# Altium schematic symbol library Passive-Discrete.SchLib: 63 symbols
Pins are listed as number, name and electrical type; pins without a type are passive.

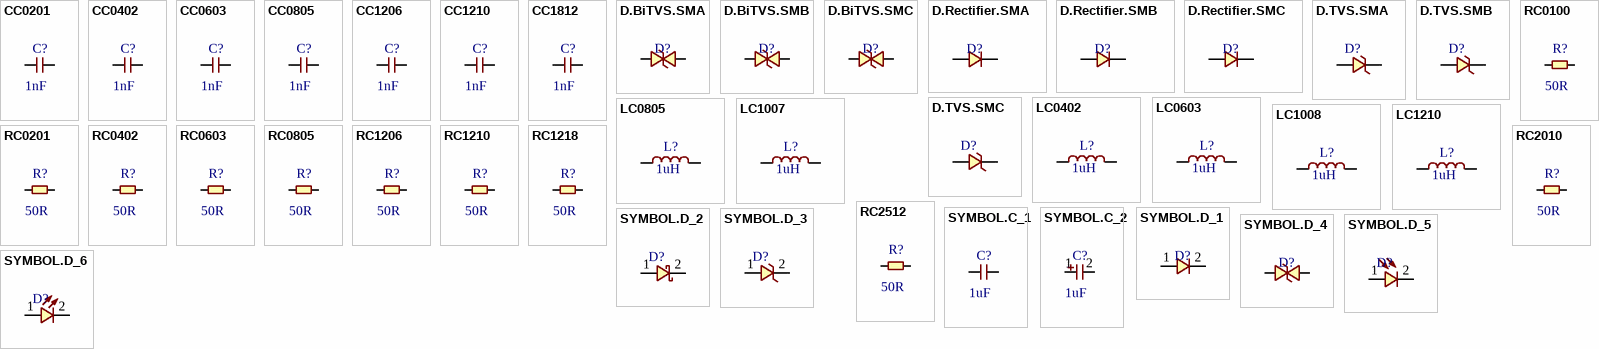
[diagram p0: symbols CC0201 to SYMBOL.D_6]

## CC0201
designator C?, comment 1nF
Capacitor Chip, EIA0201; Publisher: Julei; Manufacturer: *; PartNumber: *; Category: Capacitor; Notes: *; RatedVoltage: *; Series: *; Tolerance: *; Supplier: *; Price1: *; Price2: *; Value: 1nF
footprint CAPC.EIA0201 (Chip Capacitor, 2-Leads, Body 0.60x0.30mm, IPC Medium Density)
pins: 1, 2

## CC0402
designator C?, comment 1nF
Capacitor Chip, EIA0402; Publisher: Julei; Manufacturer: *; PartNumber: *; Category: Capacitor; Notes: *; RatedVoltage: *; Series: *; Tolerance: *; Supplier: *; Price1: *; Price2: *; Value: 1nF
footprint CAPC.EIA0402 (Chip Capacitor, 2-Leads, Body 1.00x0.50mm, IPC Medium Density)
pins: 1, 2

## CC0603
designator C?, comment 1nF
Capacitor Chip, EIA0603; Publisher: Julei; Manufacturer: *; PartNumber: *; Category: Capacitor; Notes: *; RatedVoltage: *; Series: *; Tolerance: *; Supplier: *; Price1: *; Price2: *; Value: 1nF
footprint CAPC.EIA0603 (Chip Capacitor, 2-Leads, Body 1.60x0.80mm, IPC Medium Density)
pins: 1, 2

## CC0805
designator C?, comment 1nF
Capacitor Chip, EIA0805; Publisher: Julei; Manufacturer: *; PartNumber: *; Category: Capacitor; Notes: *; RatedVoltage: *; Series: *; Tolerance: *; Supplier: *; Price1: *; Price2: *; Value: 1nF
footprint CAPC.EIA0805 (Chip Capacitor, 2-Leads, Body 2.00x1.25mm, IPC Medium Density)
pins: 1, 2

## CC1206
designator C?, comment 1nF
Capacitor Chip, EIA1206; Publisher: Julei; Manufacturer: *; PartNumber: *; Category: Capacitor; Notes: *; RatedVoltage: *; Series: *; Tolerance: *; Supplier: *; Price1: *; Price2: *; Value: 1nF
footprint CAPC.EIA1206 (Chip Capacitor, 2-Leads, Body 3.20x1.60mm, IPC Medium Density)
pins: 1, 2

## CC1210
designator C?, comment 1nF
Capacitor Chip, EIA1210; Publisher: Julei; Manufacturer: *; PartNumber: *; Category: Capacitor; Notes: *; RatedVoltage: *; Series: *; Tolerance: *; Supplier: *; Price1: *; Price2: *; Value: 1nF
footprint CAPC.EIA1210 (Chip Capacitor, 2-Leads, Body 3.20x2.50mm, IPC Medium Density)
pins: 1, 2

## CC1812
designator C?, comment 1nF
Capacitor Chip, EIA1812; Publisher: Julei; Manufacturer: *; PartNumber: *; Category: Capacitor; Notes: *; RatedVoltage: *; Series: *; Tolerance: *; Supplier: *; Price1: *; Price2: *; Value: 1nF
footprint CAPC.EIA1812 (Chip Capacitor, 2-Leads, Body 4.50x3.20mm, IPC Medium Density)
pins: 1, 2

## D.BiTVS.SMA
designator D?  (value not drawn)
Bidirectional TVS Diode, SMA Package; Publisher: Julei; Manufacturer: *; Notes: *; Category: Diode; PartNumber: *; Supplier: *; Price1: *; Price2: *
footprint DIODE.SMA (Molded Diode, 2-Leads, Body 5.20x2.60mm, IPC Medium Density)
pins: 1 A, 2 K

## D.BiTVS.SMB
designator D?  (value not drawn)
Bidirectional TVS Diode, SMB Package; Publisher: Julei; Manufacturer: *; Notes: *; Category: Diode; PartNumber: *; Supplier: *; Price2: *; Price1: *
footprint DIODE.SMB (Molded Diode, 2-Leads, Body 5.40x3.62mm, IPC Medium Density)
pins: 1 A, 2 K

## D.BiTVS.SMC
designator D?  (value not drawn)
Bidirectional TVS Diode, SMC Package; Publisher: Julei; Manufacturer: *; Notes: *; Category: Diode; PartNumber: *; Supplier: *; Price1: *; Price2: *
footprint DIODE.SMC (Molded Diode, 2-Leads, Body 7.95x5.90mm, IPC Medium Density)
pins: 1 A, 2 K

## D.Rectifier.SMA
designator D?  (value not drawn)
Rectifier Diode, SMA Package; Publisher: Julei; Manufacturer: *; Category: Diode; Notes: *; PartNumber: *; Supplier: *; Price1: *; Price2: *
footprint DIODE.SMA (Molded Diode, 2-Leads, Body 5.20x2.60mm, IPC Medium Density)
pins: 1 A, 2 K

## D.Rectifier.SMB
designator D?  (value not drawn)
Rectifier Diode, SMB Package; Publisher: Julei; Manufacturer: *; Category: Diode; Notes: *; PartNumber: *; Supplier: *; Price1: *; Price2: *
footprint DIODE.SMB (Molded Diode, 2-Leads, Body 5.40x3.62mm, IPC Medium Density)
pins: 1 A, 2 K

## D.Rectifier.SMC
designator D?  (value not drawn)
Rectifier Diode, SMC Package; Publisher: Julei; Manufacturer: *; Category: Diode; Notes: *; PartNumber: *; Supplier: *; Price1: *; Price2: *
footprint DIODE.SMC (Molded Diode, 2-Leads, Body 7.95x5.90mm, IPC Medium Density)
pins: 1 A, 2 K

## D.TVS.SMA
designator D?  (value not drawn)
TVS Diode, SMA Package; Publisher: Julei; Manufacturer: *; PartNumber: *; Category: Diode; Notes: *; Supplier: *; Price1: *; Price2: *
footprint DIODE.SMA (Molded Diode, 2-Leads, Body 5.20x2.60mm, IPC Medium Density)
pins: 1 A, 2 K

## D.TVS.SMB
designator D?  (value not drawn)
TVS Diode, SMB Package; Publisher: Julei; Manufacturer: *; PartNumber: *; Category: Diode; Notes: *; Supplier: *; Price1: *; Price2: *
footprint DIODE.SMB (Molded Diode, 2-Leads, Body 5.40x3.62mm, IPC Medium Density)
pins: 1 A, 2 K

## D.TVS.SMC
designator D?  (value not drawn)
TVS Diode, SMC Package; Publisher: Julei; Manufacturer: *; PartNumber: *; Category: Diode; Notes: *; Supplier: *; Price1: *; Price2: *
footprint DIODE.SMC (Molded Diode, 2-Leads, Body 7.95x5.90mm, IPC Medium Density)
pins: 1 A, 2 K

## LC0402
designator L?, comment 1uH
Inductor Chip, EIA0402; Publisher: Julei; Manufacturer: *; Tolerance: *; PartNumber: *; RatedCurrent: *; Notes: *; SRF: *; DCR: *; Supplier: *; Price1: *; Price2: *; Category: Inductor; Value: 1uH
footprint INDC.EIA0402 (Chip Inductor, 2-Leads, Body 1.00x0.50mm, IPC Medium Density)
pins: 1, 2

## LC0603
designator L?, comment 1uH
Inductor Chip, EIA0603; Publisher: Julei; Manufacturer: *; Tolerance: *; PartNumber: *; RatedCurrent: *; Notes: *; SRF: *; DCR: *; Category: Inductor; Supplier: *; Price1: *; Price2: *; Value: 1uH
footprint INDC.EIA0603 (Chip Inductor, 2-Leads, Body 1.60x0.80mm, IPC Medium Density)
pins: 1, 2

## LC0805
designator L?, comment 1uH
Inductor Chip, EIA0805; Publisher: Julei; Manufacturer: *; Tolerance: *; PartNumber: *; RatedCurrent: *; Notes: *; SRF: *; DCR: *; Category: Inductor; Price1: *; Price2: *; Value: 1uH
footprint INDC.EIA0805 (Chip Inductor, 2-Leads, Body 2.00x1.25mm, IPC Medium Density)
pins: 1, 2

## LC1007
designator L?, comment 1uH
Inductor Chip, EIA1007; Publisher: Julei; Manufacturer: *; Tolerance: *; PartNumber: *; RatedCurrent: *; Notes: *; SRF: *; DCR: *; Category: Inductor; Supplier: *; Price1: *; Price2: *; Value: 1uH
footprint INDC.EIA1007 (Chip Inductor, 2-Leads, Body 2.50x1.80mm, IPC Medium Density)
pins: 1, 2

## LC1008
designator L?, comment 1uH
Inductor Chip, EIA1008; Publisher: Julei; Manufacturer: *; Tolerance: *; PartNumber: *; RatedCurrent: *; Notes: *; SRF: *; DCR: *; Category: *; Supplier: *; Price1: *; Price2: *; Value: 1uH
footprint INDC.EIA1008 (Chip Inductor, 2-Leads, Body 2.50x2.00mm, IPC Medium Density)
pins: 1, 2

## LC1210
designator L?, comment 1uH
Inductor Chip, EIA1210; Publisher: Julei; Manufacturer: *; Tolerance: *; PartNumber: *; RatedCurrent: *; Notes: *; SRF: *; DCR: *; Category: Inductor; Supplier: *; Price1: *; Price2: *; Value: 1uH
footprint INDC.EIA1210 (Chip Inductor, 2-Leads, Body 3.20x2.50mm, IPC Medium Density)
pins: 1, 2

## RC0100
designator R?, comment 50R
Resistor Chip, EIA0100; RatedPower: 1/32W; Publisher: Julei; Manufacturer: *; PartNumber: *; Category: Resistor; Notes: *; Series: *; Tolerance: *; RateVoltage: *; RateCurrent: *; Supplier: *; Price1: *; Price2: *; Value: 50R
footprint RESC.EIA0100 (Chip Resistor, 2-Leads, Body 0.40x0.20mm, IPC Medium Density)
pins: 1, 2

## RC0201
designator R?, comment 50R
Resistor Chip, EIA0201; RatedPower: 1/20W; Publisher: Julei; Manufacturer: *; PartNumber: *; Category: Resistor; Notes: *; Series: *; Tolerance: *; RateVoltage: *; RateCurrent: *; Supplier: *; Price1: *; Price2: *; Value: 50R
footprint RESC.EIA0201 (Chip Resistor, 2-Leads, Body 0.60x0.30mm, IPC Medium Density)
pins: 1, 2

## RC0402
designator R?, comment 50R
Resistor Chip, EIA0402; RatedPower: 1/16W; Publisher: Julei; Manufacturer: *; PartNumber: *; Category: Resistor; Notes: *; Series: *; Tolerance: *; RateVoltage: *; RateCurrent: *; Supplier: *; Price1: *; Price2: *; Value: 50R
footprint RESC.EIA0402 (Chip Resistor, 2-Leads, Body 1.00x0.50mm, IPC Medium Density)
pins: 1, 2

## RC0603
designator R?, comment 50R
Resistor Chip, EIA0603; RatedPower: 1/10W; Publisher: Julei; Manufacturer: *; PartNumber: *; Category: Resistor; Notes: *; Series: *; Tolerance: *; RateVoltage: *; RateCurrent: *; Supplier: *; Price1: *; Price2: *; Value: 50R
footprint RESC.EIA0603 (Chip Resistor, 2-Leads, Body 1.60x0.80mm, IPC Medium Density)
pins: 1, 2

## RC0805
designator R?, comment 50R
Resistor Chip, EIA0805; RatedPower: 1/8W; Publisher: Julei; Manufacturer: *; PartNumber: *; Category: Resistor; Notes: *; Series: *; Tolerance: *; RateVoltage: *; RateCurrent: *; Supplier: *; Price1: *; Price2: *; Value: 50R
footprint RESC.EIA0805 (Chip Resistor, 2-Leads, Body 2.00x1.25mm, IPC Medium Density)
pins: 1, 2

## RC1206
designator R?, comment 50R  (graphical)
Resistor Chip, EIA1206; RatedPower: 1/4W; Publisher: Julei; Manufacturer: *; PartNumber: *; Category: Resistor; Notes: *; Series: *; Tolerance: *; RateVoltage: *; RateCurrent: *; Price1: *; Price2: *; Supplier: *; Value: 50R
footprint RESC.EIA1206 (Chip Resistor, 2-Leads, Body 3.10x1.60mm, IPC Medium Density)
pins: 1, 2

## RC1210
designator R?, comment 50R
Resistor Chip, EIA1210; RatedPower: 1/2W; Publisher: Julei; Manufacturer: *; PartNumber: *; Category: Resistor; Notes: *; Series: *; Tolerance: *; RateVoltage: *; RateCurrent: *; Supplier: *; Price2: *; Price1: *; Value: 50R
footprint RESC.EIA1210 (Chip Resistor, 2-Leads, Body 3.10x2.60mm, IPC Medium Density)
pins: 1, 2

## RC1218
designator R?, comment 50R
Resistor Chip, EIA1218; RatedPower: 1W; Publisher: Julei; Manufacturer: *; PartNumber: *; Category: Resistor; Notes: *; Series: *; Tolerance: *; RateVoltage: *; RateCurrent: *; Supplier: *; Price1: *; Price2: *; Value: 50R
footprint RESC.EIA1218 (Chip Resistor, 2-Leads, Body 3.10x4.60mm, IPC Medium Density)
pins: 1, 2

## RC2010
designator R?, comment 50R
Resistor Chip, EIA2010; RatedPower: 3/4W; Publisher: Julei; Manufacturer: *; PartNumber: *; Category: Resistor; Notes: *; Series: *; Tolerance: *; RateVoltage: *; RateCurrent: *; Supplier: *; Price1: *; Price2: *; Value: 50R
footprint RESC.EIA2010 (Chip Resistor, 2-Leads, Body 5.00x2.50mm, IPC Medium Density)
pins: 1, 2

## RC2512
designator R?, comment 50R
Resistor Chip, EIA2512; RatedPower: 1W; Publisher: Julei; Manufacturer: *; PartNumber: *; Category: Resistor; Notes: *; Series: *; Tolerance: *; RateVoltage: *; RateCurrent: *; Price1: *; Price2: *; Supplier: *; Value: 50R
footprint RESC.EIA2512 (Chip Resistor, 2-Leads, Body 6.35x3.10mm, IPC Medium Density)
pins: 1, 2

## SYMBOL.C_1
designator C?, comment 1uF
Non-Polarized Capacitor; Publisher: Julei; Manufacturer: *; RatedVoltage: *; Tolerance: *; PartNumber: *; Notes: *; Category: Capacitor; Series: *; Supplier: *; Price1: *; Price2: *; Value: 1uF
pins: 1, 2

## SYMBOL.C_2
designator C?, comment 1uF  (no BOM)
Polarized Capacitor; Publisher: Julei; RatedVoltage: *; Tolerance: *; Manufacturer: *; PartNumber: *; Notes: *; Category: Capacitor; Series: *; Supplier: *; Price1: *; Price2: *; Value: 1uF
pins: 1, 2

## SYMBOL.D_1
designator D?  (value not drawn)
General Diode | Rectifier Diode; Publisher: Julei; Manufacturer: *; Category: Diode; Notes: *; PartNumber: *; Supplier: *; Price1: *; Price2: *
pins: 1 A, 2 K

## SYMBOL.D_2
designator D?  (value not drawn)
Schottky Diode; Publisher: Julei; Manufacturer: *; PartNumber: *; Category: Diode; Notes: *; Supplier: *; Price1: *; Price2: *
pins: 1 A, 2 K

## SYMBOL.D_3
designator D?  (value not drawn)
TVS Diode | Zener Diode; Publisher: Julei; Manufacturer: *; PartNumber: *; Category: Diode; Notes: *; Price1: *; Price2: *; Supplier: *
pins: 1 A, 2 K

## SYMBOL.D_4
designator D?  (value not drawn)
Bidirectional TVS Diode; Publisher: Julei; Manufacturer: *; Notes: *; Category: Diode; PartNumber: *; Supplier: *; Price1: *; Price2: *
pins: 1 A, 2 K

## SYMBOL.D_5
designator D?  (value not drawn)
Photodiode; Publisher: Julei; Manufacturer: *; PartNumber: *; Category: Diode; Notes: *; Supplier: *; Price1: *; Price2: *
pins: 1 A, 2 K

## SYMBOL.D_6
designator D?  (value not drawn)
Laser Diode | LED; Publisher: Julei; Manufacturer: *; PartNumber: *; Category: Diode; Notes: *; Supplier: *; Price1: *; Price2: *
pins: 1 A, 2 K

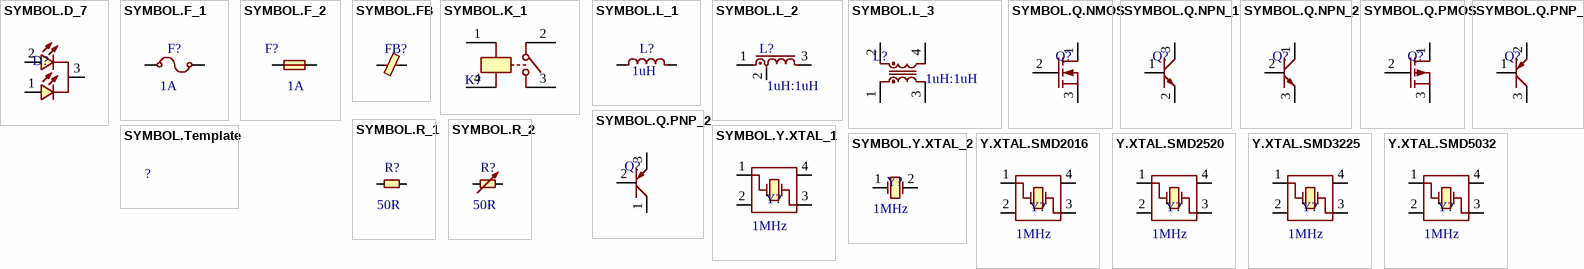
[diagram p1: symbols SYMBOL.D_7 to Y.XTAL.SMD5032]

## SYMBOL.D_7
designator D?  (value not drawn)
Common Cathode LEDs; Publisher: Julei; Manufacturer: *; Category: Diode; Notes: *; PartNumber: *; Supplier: *; Price1: *; Price2: *
pins: 1 A, 2, 3 K

## SYMBOL.F_1
designator F?  HoldCurrent: 1A  (hidden comment: *)
Resettable Fuse; Publisher: Julei; Manufacturer: *; RatedVoltage: *; PartNumber: *; Category: Fuse; Resistance: *; TripCurrent: *; Supplier: *; Price1: *; Price2: *
pins: 1, 2

## SYMBOL.F_2
designator F?  RatedCurrent: 1A  (hidden comment: *)
One Time Fuse; Publisher: Julei; Manufacturer: *; RatedVoltage: *; PartNumber: *; Category: Fuse; Resistance: *; Supplier: *; Price1: *; Price2: *
pins: 1, 2

## SYMBOL.FB
designator FB?  (value not drawn)
Ferrite Bead; Publisher: Julei; Manufacturer: *; PartNumber: *; Category: FerriteBead; Notes: *; Value: *; Supplier: *; Price1: *; Price2: *
pins: 1, 2

## SYMBOL.K_1
designator K?  (value not drawn)
Single-Pole Single-Throw Relay; Publisher: Julei; Manufacturer: *; RatedCoilCurrent: *; RatedCoilVoltage: *; RatedContactCurrent: *; RatedContactVoltage: *; PartNumber: *; Category: Relay; Notes: *; Supplier: *; Price1: *; Price2: *
pins: 1, 2, 3, 4

## SYMBOL.L_1
designator L?, comment 1uH
Inductor; Publisher: Julei; Manufacturer: *; Tolerance: *; PartNumber: *; Category: Inductor; Notes: *; DCR: *; SRF: *; RatedCurrent: *; Supplier: *; Price1: *; Price2: *; Value: 1uH
pins: 1, 2

## SYMBOL.L_2
designator L?, comment 1uH:1uH
Tapped Inductor; TurnRatio: 1:1; Publisher: Julei; Manufacturer: *; Tolerance: *; PartNumber: *; Category: Inductor; Notes: *; DCR: *; SRF: *; RatedCurrent: *; Supplier: *; Price1: *; Price2: *; Value: 1uH:1uH
pins: 1, 2, 3

## SYMBOL.L_3
designator L?, comment 1uH:1uH
Coupled Inductor; TurnRatio: 1:1; Publisher: Julei; Manufacturer: *; PartNumber: *; Notes: *; Category: Inductor; Supplier: *; Price1: *; Price2: *; Value: 1uH:1uH
pins: 1, 2, 3, 4

## SYMBOL.Q.NMOS
designator Q?  (value not drawn)
N-Channel MOSFET; Publisher: Julei; Manufacturer: *; PartNumber: *; Category: MOSFET; Notes: *; Supplier: *; Price1: *; Price2: *
pins: 1 D, 2 G, 3 S

## SYMBOL.Q.NPN_1
designator Q?  (value not drawn)
NPN Bipolar Transistor; Publisher: Julei; Manufacturer: *; Category: BJT; Notes: *; PartNumber: *; Supplier: *; Price1: *; Price2: *
pins: 1 B, 2 E, 3 C

## SYMBOL.Q.NPN_2
designator Q?  (value not drawn)
NPN Bipolar Transistor; Publisher: Julei; Manufacturer: *; Category: BJT; Notes: *; PartNumber: *; Supplier: *; Price1: *; Price2: *
pins: 1 C, 2 B, 3 E

## SYMBOL.Q.PMOS
designator Q?  (value not drawn)
P-Channel MOSFET; Publisher: Julei; Manufacturer: *; PartNumber: *; Notes: *; Category: MOSFET; Supplier: *; Price1: *; Price2: *
pins: 1 D, 2 G, 3 S

## SYMBOL.Q.PNP_1
designator Q?  (value not drawn)
PNP Bipolar Transistor; Publisher: Julei; Manufacturer: *; PartNumber: *; Category: BJT; Notes: *; Supplier: *; Price1: *; Price2: *
pins: 1 B, 2 E, 3 C

## SYMBOL.Q.PNP_2
designator Q?  (value not drawn)
PNP Bipolar Transistor; Publisher: Julei; Manufacturer: *; PartNumber: *; Category: BJT; Notes: *; Supplier: *; Price1: *; Price2: *
pins: 1 C, 2 B, 3 E

## SYMBOL.R_1
designator R?, comment 50R
Resistor; Publisher: Julei; Tolerance: *; Manufacturer: *; RatedVoltage: *; RatedPower: *; PartNumber: *; Category: Resistor; Supplier: *; Price1: *; Price2: *; Value: 50R
pins: 1, 2

## SYMBOL.R_2
designator R?  value 50R
Variable Resistor; Publisher: Julei; Manufacturer: *; PartNumber: *; Category: Resistor; Notes: *; Supplier: *; Price1: *; Price2: *
pins: 1, 2

## SYMBOL.Template
designator ?  (value not drawn)
Template to Create New Component; Publisher: Julei; Manufacturer: *; PartNumber: *; Category: *; Notes: *; Supplier: *; Price1: *; Price2: *

## SYMBOL.Y.XTAL_1
designator Y?, comment 1MHz
4-Pin Quartz Crystal; Publisher: Julei; Manufacturer: *; Tolerance: *; LoadCapacitance: *; PartNumber: *; Category: XTAL; Notes: *; Supplier: *; Price1: *; Price2: *; Frequency: 1MHz
pins: 1 OSC1, 2 GND (power), 3 OSC2, 4 GND (power)

## SYMBOL.Y.XTAL_2
designator Y?, comment 1MHz
2-Pin Quartz Crystal; Publisher: Julei; Manufacturer: *; Tolerance: *; LoadCapacitance: *; PartNumber: *; Category: XTAL; Notes: *; Supplier: *; Price1: *; Price2: *; Frequency: 1MHz
pins: 1 OSC1, 2 OSC2

## Y.XTAL.SMD2016
designator Y?, comment 1MHz
4-Pin Quartz Crystal, 2.0 x 1.6mm SMD; Publisher: Julei; Manufacturer: *; Tolerance: *; LoadCapacitance: *; PartNumber: *; Category: XTAL; Notes: *; Supplier: *; Price1: *; Price2: *; Frequency: 1MHz
footprint OSCC.SMD200X160X50-4N (Oscillator Chip, 4-Leads, Body 1.60x2.00mm, Pitch 1.40mm, IPC Medium Density)
pins: 1 OSC1, 2 GND (power), 3 OSC2, 4 GND (power)

## Y.XTAL.SMD2520
designator Y?, comment 1MHz
4-Pin Quartz Crystal, 2.5 x 2.0mm SMD; Publisher: Julei; Manufacturer: *; Tolerance: *; LoadCapacitance: *; PartNumber: *; Category: XTAL; Notes: *; Supplier: *; Price1: *; Price2: *; Frequency: 1MHz
footprint OSCC.SMD250X200X60-4N (Oscillator Chip, 4-Leads, Body 2.00x2.50mm, Pitch 1.70mm, IPC Medium Density)
pins: 1 OSC1, 2 GND (power), 3 OSC2, 4 GND (power)

## Y.XTAL.SMD3225
designator Y?, comment 1MHz
4-Pin Quartz Crystal, 3.2 x 2.5mm SMD; Publisher: Julei; Manufacturer: *; Tolerance: *; LoadCapacitance: *; PartNumber: *; Category: XTAL; Notes: *; Supplier: *; Price1: *; Price2: *; Frequency: 1MHz
footprint OSCC.SMD320X250X80-4N (Oscillator Chip, 4-Leads, Body 2.50x3.20mm, Pitch 2.20mm, IPC Medium Density)
pins: 1 OSC1, 2 GND (power), 3 OSC2, 4 GND (power)

## Y.XTAL.SMD5032
designator Y?, comment 1MHz
4-Pin Quartz Crystal, 5.0 x 3.2mm SMD; Publisher: Julei; Manufacturer: *; Tolerance: *; LoadCapacitance: *; PartNumber: *; Category: XTAL; Notes: *; Supplier: *; Price1: *; Price2: *; Frequency: 1MHz
footprint OSCC.SMD500X320X110-4N (Oscillator Chip, 4-Leads, Body 3.20x5.00mm, Pitch 3.70mm, IPC Medium Density)
pins: 1 OSC1, 2 GND (power), 3 OSC2, 4 GND (power)